# EAGLE library part PRD15-Q24-S12-P-D (library PRD15-Q24-S12)
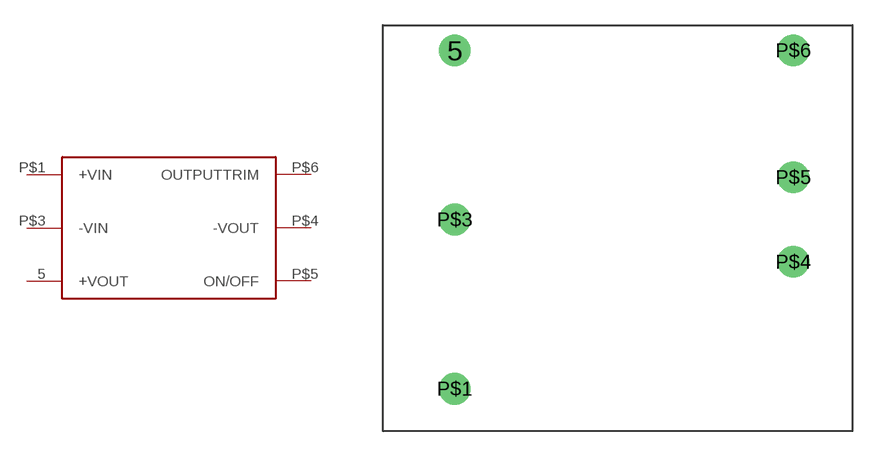
[diagram p0: symbol with the pads of PRD15-Q24-S12-P-D; footprint PRD15-Q24-S12-P-D]

Designator prefix -

## PRD15-Q24-S12-P-D  [PRD15-Q24-S12-P-D]
5  +VOUT
P$1  +VIN
P$3  -VIN
P$4  -VOUT
P$5  ON/OFF
P$6  OUTPUTTRIM

## Footprint PRD15-Q24-S12-P-D (pad centres in mm)
drill 1.27: 5 4.318,22.86; P$1 4.318,2.54; P$3 4.318,12.7; P$4 24.638,10.16; P$5 24.638,15.24; P$6 24.638,22.86